# Altium schematic symbol library Battery.SchLib: 2 symbols
Pins are listed as number, name and electrical type; pins without a type are passive.

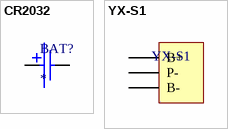
[diagram p0: symbols CR2032 to YX-S1]

## CR2032
designator BAT?
CR2032 Holder
footprint CR2032_H
footprint CR2032_holder_H
footprint CR2032_holder_V
footprint CR2032_V
pins: 1 + (power), 2 - (power)

## YX-S1
designator YX-S1  (value not drawn)
YX-S1
footprint YX-S1
pins: B+, B-, P-